# Altium schematic symbol library Component.SchLib: 1 symbol
Pins are listed as number, name and electrical type; pins without a type are passive.

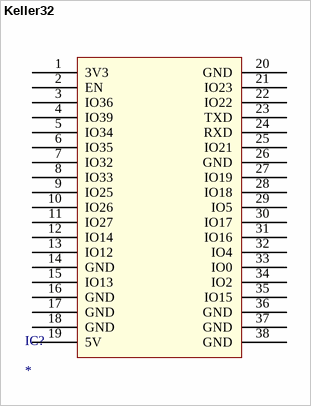
[diagram p0: symbol Keller32]

## Keller32
designator IC?
footprint Keller32 (ESP32 devboard)
pins: 1 3V3, 2 EN, 3 IO36, 4 IO39, 5 IO34, 6 IO35, 7 IO32, 8 IO33, 9 IO25, 10 IO26, 11 IO27, 12 IO14, 13 IO12, 14 GND, 15 IO13, 16 GND, 17 GND, 18 GND, 19 5V, 20 GND, 21 IO23, 22 IO22, 23 TXD, 24 RXD, 25 IO21, 26 GND, 27 IO19, 28 IO18, 29 IO5, 30 IO17, 31 IO16, 32 IO4, 33 IO0, 34 IO2, 35 IO15, 36 GND, 37 GND, 38 GND